# EAGLE library part FRANZININHO (library Franzininho Library)
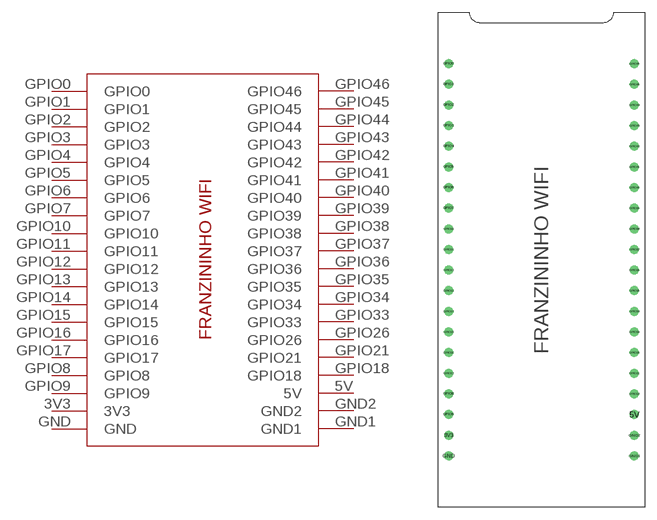
[diagram p0: symbol with the pads of FRANZININHO-FOOTPRINT; footprint FRANZININHO-FOOTPRINT]

Designator prefix -

## FRANZININHO  [FRANZININHO-FOOTPRINT]
3V3  3V3
5V  5V
GND  GND
GND1  GND1
GND2  GND2
GPIO0  GPIO0
GPIO1  GPIO1
GPIO2  GPIO2
GPIO3  GPIO3
GPIO4  GPIO4
GPIO5  GPIO5
GPIO6  GPIO6
GPIO7  GPIO7
GPIO8  GPIO8
GPIO9  GPIO9
GPIO10  GPIO10
GPIO11  GPIO11
GPIO12  GPIO12
GPIO13  GPIO13
GPIO14  GPIO14
GPIO15  GPIO15
GPIO16  GPIO16
GPIO17  GPIO17
GPIO18  GPIO18
GPIO21  GPIO21
GPIO26  GPIO26
GPIO33  GPIO33
GPIO34  GPIO34
GPIO35  GPIO35
GPIO36  GPIO36
GPIO37  GPIO37
GPIO38  GPIO38
GPIO39  GPIO39
GPIO40  GPIO40
GPIO41  GPIO41
GPIO42  GPIO42
GPIO43  GPIO43
GPIO44  GPIO44
GPIO45  GPIO45
GPIO46  GPIO46

## Footprint FRANZININHO-FOOTPRINT (pad centres in mm)
drill 0.6: 3V3 -5.08,-16.51; 5V 17.78,-13.97; GND -5.08,-19.05; GND1 17.78,-19.05; GND2 17.78,-16.51; GPIO0 -5.08,29.21; GPIO1 -5.08,26.67; GPIO2 -5.08,24.13; GPIO3 -5.08,21.59; GPIO4 -5.08,19.05; GPIO5 -5.08,16.51; GPIO6 -5.08,13.97; GPIO7 -5.08,11.43; GPIO8 -5.08,-11.43; GPIO9 -5.08,-13.97; GPIO10 -5.08,8.89; GPIO11 -5.08,6.35; GPIO12 -5.08,3.81; GPIO13 -5.08,1.27; GPIO14 -5.08,-1.27; GPIO15 -5.08,-3.81; GPIO16 -5.08,-6.35; GPIO17 -5.08,-8.89; GPIO18 17.78,-11.43; GPIO21 17.78,-8.89; GPIO26 17.78,-6.35; GPIO33 17.78,-3.81; GPIO34 17.78,-1.27; GPIO35 17.78,1.27; GPIO36 17.78,3.81; GPIO37 17.78,6.35; GPIO38 17.78,8.89; GPIO39 17.78,11.43; GPIO40 17.78,13.97; GPIO41 17.78,16.51; GPIO42 17.78,19.05; GPIO43 17.78,21.59; GPIO44 17.78,24.13; GPIO45 17.78,26.67; GPIO46 17.78,29.21